# Altium schematic symbol library SCH_LIB.SchLib: 21 symbols
Pins are listed as number, name and electrical type; pins without a type are passive.

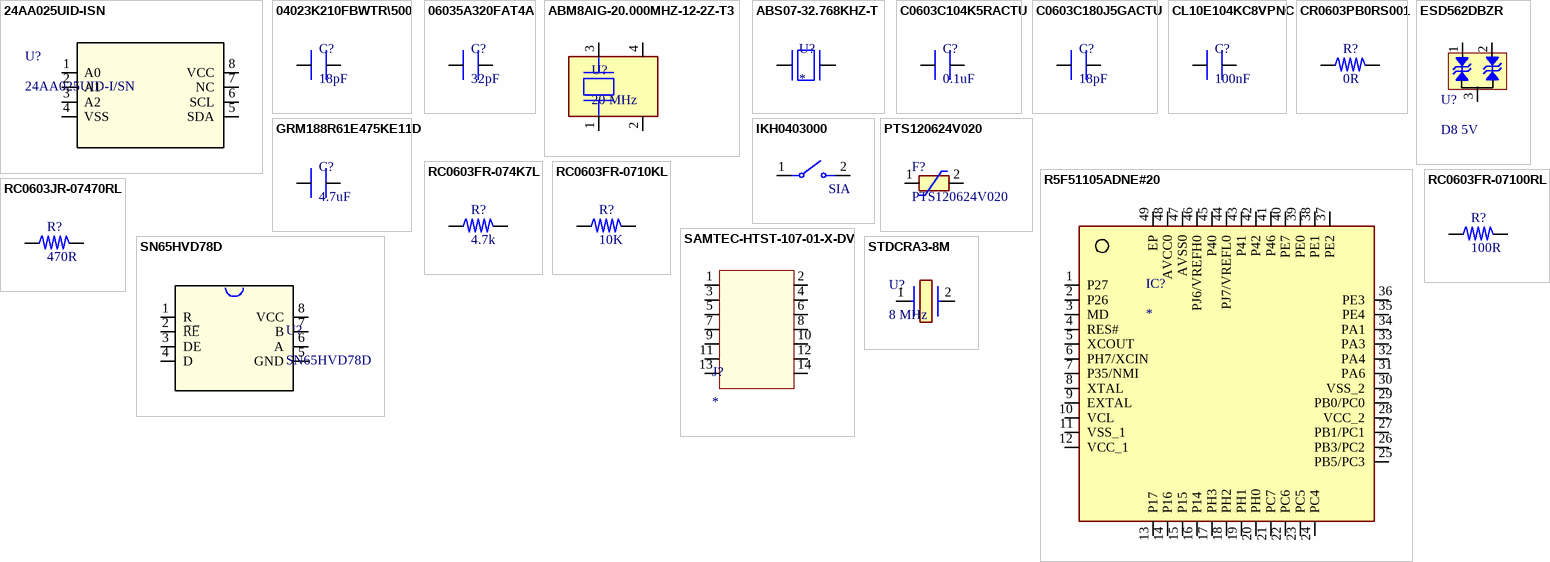
[diagram p0: symbols 24AA025UID-ISN to STDCRA3-8M]

## 24AA025UID-ISN
designator U?, comment 24AA025UID-I/SN
EEPROM Memory IC 2Kbit I2C 400 kHz 900 ns 8-SOIC; Manufacturer_Name: Microchip; Copyright: Copyright (C) 2025 Ultra Librarian. All rights reserved.; Manufacturer_Part_Number: 24AA025UID-I/SN; RefDes: RefDes; Type: Type
footprint SOIC8-N_MC_MCH
pins: 1 A0, 2 A1, 3 A2, 4 VSS, 5 SDA, 6 SCL, 7 NC, 8 VCC

## 04023K210FBWTR\500
designator C?, comment 18pF
CAP THIN FILM 21PF 25V 0402; Manufacturer: KEMET; Manufacturing Part Number: C0603C104K5RACTU; Case/Package: 0603
footprint CAP (Ceramic Capacitor)
pins: 1, 2

## 06035A320FAT4A
designator C?, comment 32pF
32 pF ±1% 50V Ceramic Capacitor C0G, NP0 0603 (1608 Metric); Manufacturer: KEMET; Manufacturing Part Number: C0603C104K5RACTU; Case/Package: 0603
footprint CAP (Ceramic Capacitor)
pins: 1, 2

## ABM8AIG-20.000MHZ-12-2Z-T3
designator U?, comment 20 MHz
20 MHz Â±20ppm Crystal 12pF 50 Ohms 4-SMD, No Lead; MP: ABM8AIG-20.000MHZ-12-2Z-T3; MF: Abracon; Check_prices: https://www.snapeda.com/parts/ABM8AIG-20.000MHZ-12-2Z-T3/Abracon/view-part/?ref=eda; Availability: In Stock; Package: NON STANDARD Abracon; Value: *; Purchase-URL: https://pricing.snapeda.com/search/part/ABM8AIG-20.000MHZ-12-2Z-T3/?ref=eda; SnapEDA_Link: https://www.snapeda.com/parts/ABM8AIG-20.000MHZ-12-2Z-T3/Abracon/view-part/?ref=snap; Price: None
footprint XTAL_ABM8AIG-20.000MHZ-12-2Z-T3
pins: 1, 2 GND (power), 3 2, 4 GND (power)

## ABS07-32.768KHZ-T
designator U?
32.768 kHz Â±20ppm Crystal 12.5pF 70 kOhms 2-SMD, No Lead; MP: ABS07-32.768KHZ-T; MF: Abracon; Availability: In Stock; SnapEDA_Link: https://www.snapeda.com/parts/ABS07-32.768KHZ-T/Abracon+LLC/view-part/?ref=snap; Price: None; Value: *; Check_prices: https://www.snapeda.com/parts/ABS07-32.768KHZ-T/Abracon+LLC/view-part/?ref=eda; Purchase-URL: https://pricing.snapeda.com/search/part/ABS07-32.768KHZ-T/?ref=eda; Package: SMD-2 Abracon LLC
footprint XTAL_ABS07-32.768KHZ-T
pins: 1, 2

## C0603C104K5RACTU
designator C?, comment 0.1uF
0.1 µF ±10% 50V Ceramic Capacitor X7R 0603 (1608 Metric); Manufacturer: KEMET; Manufacturing Part Number: C0603C104K5RACTU; Case/Package: 0603
footprint CAP (Ceramic Capacitor)
pins: 1, 2

## C0603C180J5GACTU
designator C?, comment 18pF
18 pF ±5% 50V Ceramic Capacitor C0G, NP0 0603 (1608 Metric); Manufacturer: KEMET; Manufacturing Part Number: C0603C104K5RACTU; Case/Package: 0603
footprint CAP (Ceramic Capacitor)
pins: 1, 2

## CL10E104KC8VPNC
designator C?, comment 100nF
100 nF ±10% 100V Ceramic Capacitor X8L 0603 (1608 Metric); Manufacturer: KEMET; Manufacturing Part Number: C0603C104K5RACTU; Case/Package: 0603
footprint CAP (Ceramic Capacitor)
pins: 1, 2

## CR0603PB0RS001
designator R?, comment 0R
0 Ohms Jumper 0.1W, 1/10W Chip Resistor 0603 (1608 Metric) Thick Film; Manufacturer: YAGEO; Manufacturer Part Number: RC0603FR-0710KL; Case/Package: 0603
footprint RES (Resister)
pins: 1, 2

## ESD562DBZR
designator U?, comment D8 5V
Two-channel bidirectional 12V ESD protection diode 3-SOT-23 -40 to 125
footprint SOT-23-3_DBZ_TEX
pins: 1, 2, 3

## GRM188R61E475KE11D
designator C?, comment 4.7uF
4.7 µF ±10% 25V Ceramic Capacitor X5R 0603 (1608 Metric); Manufacturer: KEMET; Manufacturing Part Number: C0603C104K5RACTU; Case/Package: 0603
footprint CAP (Ceramic Capacitor)
pins: 1, 2

## IKH0403000
designator U?, comment SIA
footprint SW_DS01-254-L-01BE
pins: 1, 2

## PTS120624V020
designator F?
Polymeric PTC Resettable Fuse 24V 200 mA Ih Surface Mount 1206 (3216 Metric), Concave; Manufacture NO.: 0679L3000-01; MF: Panasonic; MP: ERB-RE5R00V; SnapEDA_Link: https://www.snapeda.com/parts/ERB-RE5R00V/Panasonic/view-part/?ref=snap; Package: 0603 Panasonic Electronic Components; Check_prices: https://www.snapeda.com/parts/ERB-RE5R00V/Panasonic/view-part/?ref=eda
footprint RESC3216X125N
pins: 1, 2

## R5F51105ADNE#20
designator IC?
Integrated Circuit; Manufacturer_Name: Renesas Electronics; Manufacturer_Part_Number: R5F51105ADNE#20; Description: RX110 Group microcontrollers have the simplest lineup of the RX100 Series. They have a small-capacity; Datasheet Link: https://www.renesas.com/us/en/products/microcontrollers-microprocessors/rx-32-bit-performance-efficiency-mcus/rx110-32-bit-microcontrollers-featuring-ultra-low-power-consumption; Height: 0.8mm
footprint QFN50P700X700X80-49N-D
pins: 1 P27, 2 P26, 3 MD, 4 RES#, 5 XCOUT, 6 PH7/XCIN, 7 P35/NMI, 8 XTAL, 9 EXTAL, 10 VCL, 11 VSS_1, 12 VCC_1, 13 P17, 14 P16, 15 P15, 16 P14, 17 PH3, 18 PH2, 19 PH1, 20 PH0, 21 PC7, 22 PC6, 23 PC5, 24 PC4, 25 PB5/PC3, 26 PB3/PC2, 27 PB1/PC1, 28 VCC_2, 29 PB0/PC0, 30 VSS_2, 31 PA6, 32 PA4, 33 PA3, 34 PA1, 35 PE4, 36 PE3, 37 PE2, 38 PE1, 39 PE0, 40 PE7, 41 P46, 42 P42, 43 P41, 44 PJ7/VREFL0, 45 P40, 46 PJ6/VREFH0, 47 AVSS0, 48 AVCC0, 49 EP

## RC0603FR-074K7L
designator R?, comment 4.7k
4.7 kOhms ±1% 0.1W, 1/10W Chip Resistor 0603 (1608 Metric) Moisture Resistant Thick Film; Manufacturer: YAGEO; Manufacturer Part Number: RC0603FR-0710KL; Case/Package: 0603
footprint RES (Resister)
pins: 1, 2

## RC0603FR-0710KL
designator R?, comment 10K
10 kOhms ±1% 0.1W, 1/10W Chip Resistor 0603 (1608 Metric) Moisture Resistant Thick Film; Manufacturer: YAGEO; Manufacturer Part Number: RC0603FR-0710KL; Case/Package: 0603
footprint RES (Resister)
pins: 1, 2

## RC0603FR-07100RL
designator R?, comment 100R
100 Ohms ±1% 0.1W, 1/10W Chip Resistor 0603 (1608 Metric) Moisture Resistant Thick Film; Manufacturer: Vishay Dale; Manufacturer Part Number: CRCW0603590KFKEA; Case/Package: 0603
footprint RES (Resister)
pins: 1, 2

## RC0603JR-07470RL
designator R?, comment 470R
470 Ohms ±5% 0.1W, 1/10W Chip Resistor 0603 (1608 Metric) Moisture Resistant Thick Film; Manufacturer: Vishay Dale; Manufacturer Part Number: CRCW0603590KFKEA; Case/Package: 0603
footprint RES (Resister)
pins: 1, 2

## SAMTEC-HTST-107-01-X-DV
designator J?
MP: SAMTEC-HTST-107-01-X-DV; Price: None; Availability: Unavailable; Package: None; Value: *
footprint SAMTEC-HTST-107-01-X-DV
pins: 1, 2, 3, 4, 5, 6, 7, 8, 9, 10, 11, 12, 13, 14

## SN65HVD78D
designator U?
3.3 V Half-Duplex RS-485, with IEC ESD, 50 Mbps 8-SOIC -40 to 125; Manufacturer_Name: Texas Instruments; Copyright: Copyright (C) 2025 Ultra Librarian. All rights reserved.; Manufacturer_Part_Number: SN65HVD78D; RefDes: RefDes; Type: Type
footprint D8_TEX
pins: 1 R, 2 R̅E̅, 3 DE, 4 D, 5 GND (power), 6 A, 7 B, 8 VCC (power)

## STDCRA3-8M
designator U?, comment 8 MHz
8 MHz ±50ppm Crystal 8pF 500 Ohms 2-SMD, No Lead, Crystal or Oscillator; Manufacturer_Name: ABRACON; Manufacturer_Part_Number: ABS07-32.768KHZ-T; Description: 32.768 kHz +/-20ppm Crystal 7pF 70 kOhms 2-SMD; Datasheet Link: https://abracon.com/Resonators/ABS07.pdf; Height: 0.9mm; Mouser Part Number: 815-ABS07-32.768KHZT; Mouser Price/Stock: https://www.mouser.co.uk/ProductDetail/ABRACON/ABS07-32.768KHZ-T?qs=3SpAxaLJ01g8GJWeO3sA3Q%3D%3D; Arrow Part Number: ABS07-32.768KHZ-T; Arrow Price/Stock: https://www.arrow.com/en/products/abs07-32.768khz-t/abracon?utm_currency=USD&region=europe
footprint ABS07
pins: 1, 2